# Altium schematic symbol library Schlib1.SchLib: 1 symbol
Pins are listed as number, name and electrical type; pins without a type are passive.

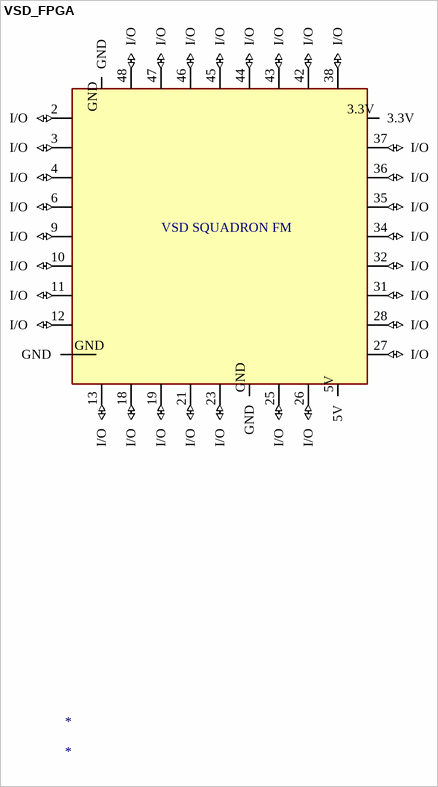
[diagram p0: symbol VSD_FPGA]

## VSD_FPGA
designator *
VSD SQUADROM FM FPGA
footprint VSD_FPGA2 (VSD SQUADRON FM FPGA)
pins: 2 I/O (io), 3 I/O (io), 3.3V, 4 I/O (io), 5V, 6 I/O (io), 9 I/O (io), 10 I/O (io), 11 I/O (io), 12 I/O (io), 13 I/O (io), 18 I/O (io), 19 I/O (io), 21 I/O (io), 23 I/O (io), 25 I/O (io), 26 I/O (io), 27 I/O (io), 28 I/O (io), 31 I/O (io), 32 I/O (io), 34 I/O (io), 35 I/O (io), 36 I/O (io), 37 I/O (io), 38 I/O (io), 42 I/O (io), 43 I/O (io), 44 I/O (io), 45 I/O (io), 46 I/O (io), 47 I/O (io), 48 I/O (io), GND, GND, GND
text: VSD SQUADRON FM